# Altium schematic symbol library WE-SHC-THT.Schlib: 5 symbols
Pins are listed as number, name and electrical type; pins without a type are passive.

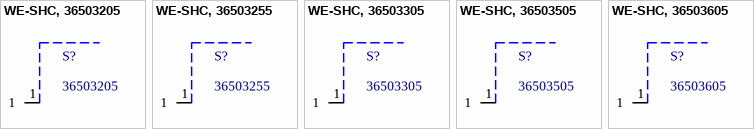
[diagram p0: symbols WE-SHC, 36503205 to WE-SHC, 36503605]

## WE-SHC, 36503205
designator S?, comment 36503205
Shielding Cabinet WE-SHC; Manufacturer: Würth Elektronik eiSos GmbH; partNo: 36503205; ComponentLink1Description: Manufacturer; ComponentLink1URL: http://www.we-online.de; Created by: Christin Zierenner; Created Date: May 2012; ComponentLink2Description: Datasheet; ComponentLink2URL: http://katalog.we-online.de/kataloge/eisos/media/pdf/36503205.pdf
footprint WE-SHC, 36503205 (Shielding Cabinet WE-SHC,FRAME THT,20mmX20mm)
pins: 1

## WE-SHC, 36503255
designator S?, comment 36503255
Shielding Cabinet WE-SHC; Manufacturer: Würth Elektronik eiSos GmbH; partNo: 36503255; ComponentLink1Description: Manufacturer; ComponentLink1URL: http://www.we-online.de; Created by: Christin Zierenner; Created Date: May 2012; ComponentLink2Description: Datasheet; ComponentLink2URL: http://katalog.we-online.de/kataloge/eisos/media/pdf/36503255.pdf
footprint WE-SHC, 36503255 (Shielding Cabinet WE-SHC,FRAME THT,25mmX25mm)
pins: 1

## WE-SHC, 36503305
designator S?, comment 36503305
Shielding Cabinet WE-SHC; Manufacturer: Würth Elektronik eiSos GmbH; partNo: 36503305; ComponentLink1Description: Manufacturer; ComponentLink1URL: http://www.we-online.de; Created by: Christin Zierenner; Created Date: May 2012; ComponentLink2Description: Datasheet; ComponentLink2URL: http://katalog.we-online.de/kataloge/eisos/media/pdf/36503305.pdf
footprint WE-SHC, 36503305 (Shielding Cabinet WE-SHC,FRAME THT,30mmX30mm)
pins: 1

## WE-SHC, 36503505
designator S?, comment 36503505
Shielding Cabinet WE-SHC; Manufacturer: Würth Elektronik eiSos GmbH; partNo: 36503505; ComponentLink1Description: Manufacturer; ComponentLink1URL: http://www.we-online.de; Created by: Christin Zierenner; Created Date: May 2012; ComponentLink2Description: Datasheet; ComponentLink2URL: http://katalog.we-online.de/kataloge/eisos/media/pdf/36503505.pdf
footprint WE-SHC, 36503505 (Shielding Cabinet WE-SHC,FRAME THT,50mmX50mm)
pins: 1

## WE-SHC, 36503605
designator S?, comment 36503605
Shielding Cabinet WE-SHC; Manufacturer: Würth Elektronik eiSos GmbH; partNo: 36503605; ComponentLink1Description: Manufacturer; ComponentLink1URL: http://www.we-online.de; Created by: Christin Zierenner; Created Date: May 2012; ComponentLink2Description: Datasheet; ComponentLink2URL: http://katalog.we-online.de/kataloge/eisos/media/pdf/36503605.pdf
footprint WE-SHC, 36503605 (Shielding Cabinet WE-SHC,FRAME THT,60mmX60mm)
pins: 1